# EAGLE library part XBEE_XPLORER_REG (library Adafruit_Arduino)
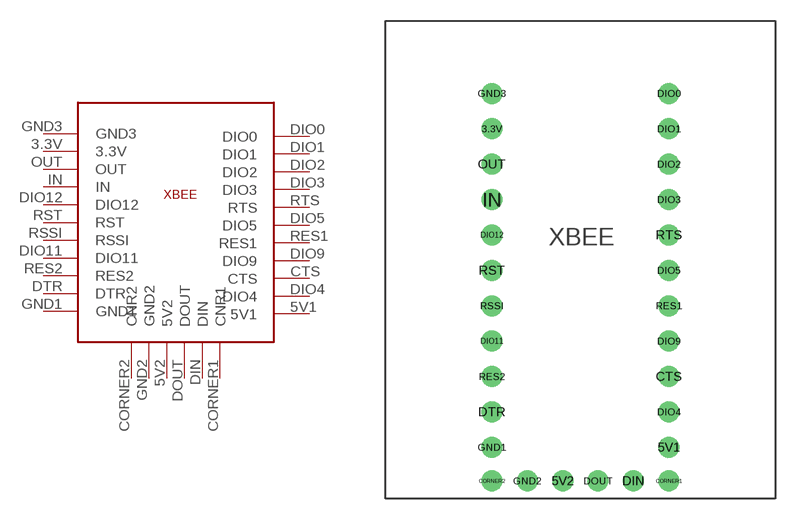
[diagram p7: symbol with the pads of XBEE_EXPLORER_REG'D; footprint XBEE_EXPLORER_REG'D]

Designator prefix -

## XBEE_XPLORER_REG  [XBEE_EXPLORER_REG'D]
3.3V  3.3V
5V1  5V1
5V2  5V2
CORNER1  CNR1
CORNER2  CNR2
CTS  CTS
DIN  DIN
DIO0  DIO0
DIO1  DIO1
DIO2  DIO2
DIO3  DIO3
DIO4  DIO4
DIO5  DIO5
DIO9  DIO9
DIO11  DIO11
DIO12  DIO12
DOUT  DOUT
DTR  DTR
GND1  GND1
GND2  GND2
GND3  GND3
IN  IN
OUT  OUT
RES1  RES1
RES2  RES2
RSSI  RSSI
RST  RST
RTS  RTS

## Footprint XBEE_EXPLORER_REG'D (pad centres in mm)
drill 1: 3.3V -6.35,9.398; 5V1 6.35,-13.462; 5V2 -1.27,-15.875; CORNER1 6.35,-15.875; CORNER2 -6.35,-15.875; CTS 6.35,-8.382; DIN 3.81,-15.875; DIO0 6.35,11.938; DIO1 6.35,9.398; DIO2 6.35,6.858; DIO3 6.35,4.318; DIO4 6.35,-10.922; DIO5 6.35,-0.762; DIO9 6.35,-5.842; DIO11 -6.35,-5.842; DIO12 -6.35,1.778; DOUT 1.27,-15.875; DTR -6.35,-10.922; GND1 -6.35,-13.462; GND2 -3.81,-15.875; GND3 -6.35,11.938; IN -6.35,4.318; OUT -6.35,6.858; RES1 6.35,-3.302; RES2 -6.35,-8.382; RSSI -6.35,-3.302; RST -6.35,-0.762; RTS 6.35,1.778